# Altium footprint library TINYMODULE-V3.PcbLib: 27 footprints (part 2 of 2)
Each footprint in its own frame and in the unit in brackets; x right, y up, seen from the top. Pads: shape width x height; smd on the part's side, far side on the other; paste and mask are expansions set on the pad; w line width, h text height; cw(c..) or ccw(c..) is an arc to the next point about the centre after c.
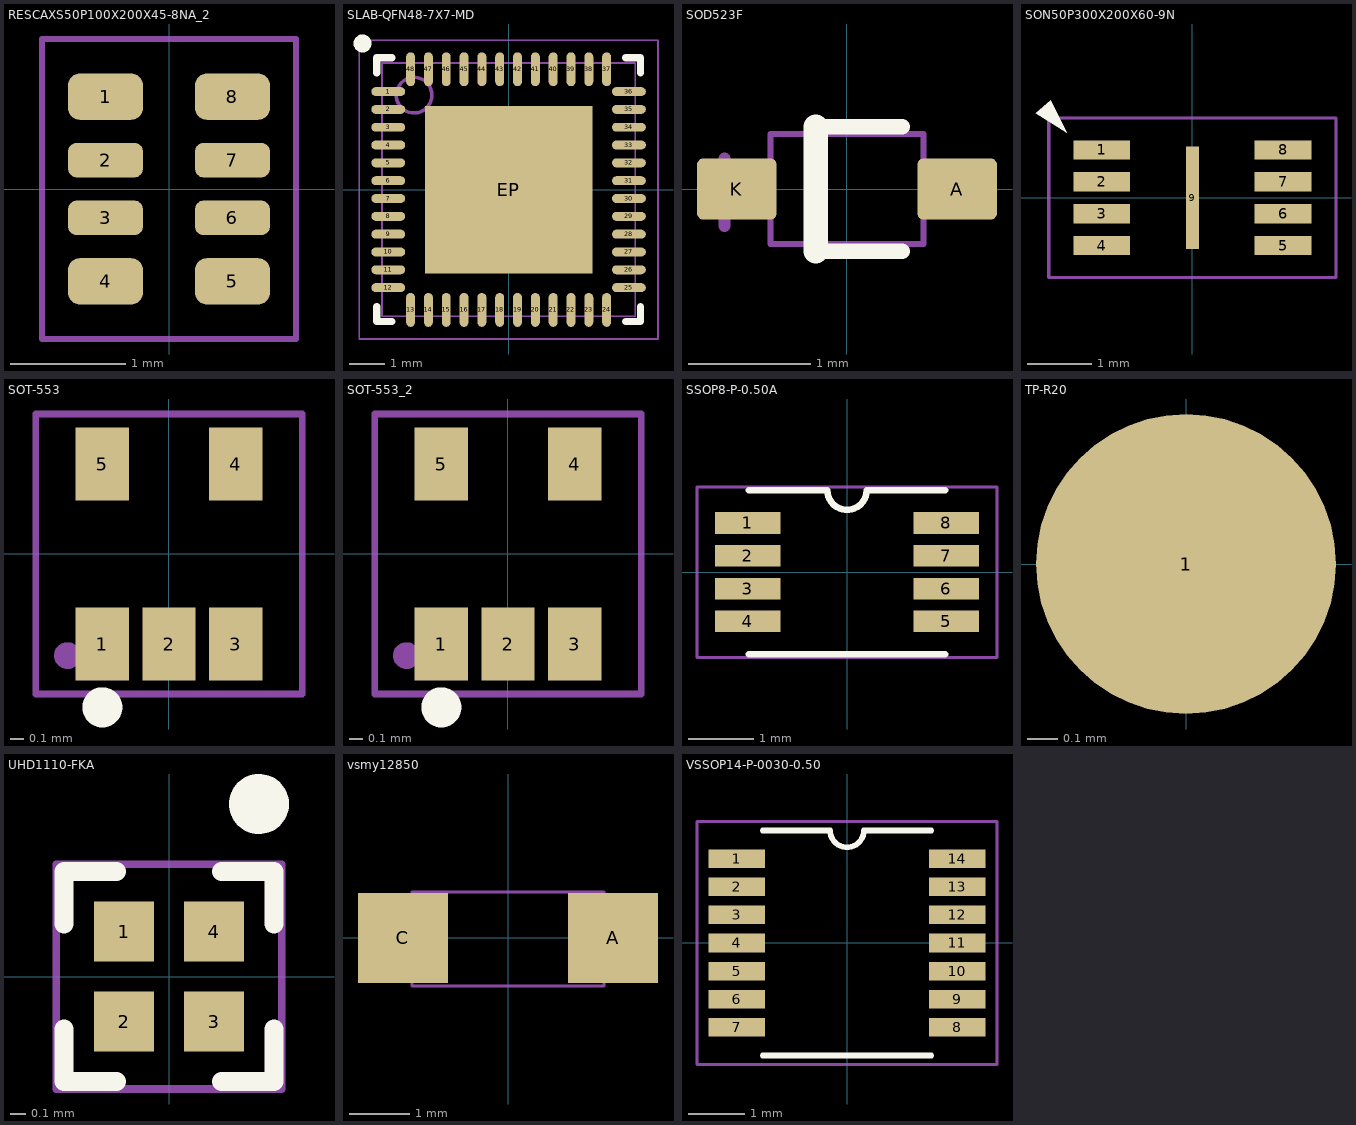
[diagram p1: the footprints below, top view; thin cyan lines are the x and y axes]

## RESCAXS50P100X200X45-8NA_2 [mm]
pads (8):
  rrect50% 0.65x0.4 smd: 1(-0.55,0.8) 4(-0.55,-0.8) 5(0.55,-0.8) 8(0.55,0.8)
  rrect50% 0.65x0.3 smd: 2(-0.55,0.25) 3(-0.55,-0.25) 6(0.55,-0.25) 7(0.55,0.25)
Mechanical 16:
  lines w0.05: -1.1,-1.3 1.1,-1.3 1.1,1.3 -1.1,1.3 -1.1,-1.3
  text ".Designator" at -0.32,0.66 h0.55
3D body "User Library-YC124-1.STEP": height 0.45, standoff 0, extent -0.5,-1 0.5,1

## SLAB-QFN48-7X7-MD [mm] "QFN, 48-Leads, Body 7.00x7.00mm, Pitch 0.50mm, Thermal Pad 4.70x4.70mm, IPC Medium Density"
height 0.9
pads (49):
  oval 0.95x0.25 smd mask+0.051: 1(-3.375,2.75) 2(-3.375,2.25) 3(-3.375,1.75) 4(-3.375,1.25) 5(-3.375,0.75) 6(-3.375,0.25) 7(-3.375,-0.25) 8(-3.375,-0.75) 9(-3.375,-1.25) 10(-3.375,-1.75) 11(-3.375,-2.25) 12(-3.375,-2.75) 25(3.375,-2.75) 26(3.375,-2.25) 27(3.375,-1.75) 28(3.375,-1.25) 29(3.375,-0.75) 30(3.375,-0.25) 31(3.375,0.25) 32(3.375,0.75) 33(3.375,1.25) 34(3.375,1.75) 35(3.375,2.25) 36(3.375,2.75)
  oval 0.25x0.95 smd mask+0.051: 13(-2.75,-3.375) 14(-2.25,-3.375) 15(-1.75,-3.375) 16(-1.25,-3.375) 17(-0.75,-3.375) 18(-0.25,-3.375) 19(0.25,-3.375) 20(0.75,-3.375) 21(1.25,-3.375) 22(1.75,-3.375) 23(2.25,-3.375) 24(2.75,-3.375) 37(2.75,3.375) 38(2.25,3.375) 39(1.75,3.375) 40(1.25,3.375) 41(0.75,3.375) 42(0.25,3.375) 43(-0.25,3.375) 44(-0.75,3.375) 45(-1.25,3.375) 46(-1.75,3.375) 47(-2.25,3.375) 48(-2.75,3.375)
  rect 4.7x4.7 smd mask+0.051: EP(0,0)
Top Overlay:
  circle w0.25: c-4.1,4.1 r0.125
  lines w0.2: -3.7,-3.275 -3.7,-3.7 -3.275,-3.7 ; -3.7,3.275 -3.7,3.7 -3.275,3.7 ; 3.275,-3.7 3.7,-3.7 3.7,-3.275 ; 3.275,3.7 3.7,3.7 3.7,3.275
Mechanical 16:
  circle w0.1: c-2.65,2.65 r0.5
  lines w0.05: -4.191,-4.191 4.191,-4.191 4.191,4.191 -4.191,4.191 -4.191,-4.191 ; -3.55,-3.55 -3.55,3.55 3.55,3.55 3.55,-3.55 -3.55,-3.55
  text ".Designator" at -0.35,0.45 h0.55
3D body: height 0.9, standoff 0.05, extent -3.55,-3.55 3.55,3.55

## SOD523F [mm] "SOD-523F; 2 Leads; Body 1.3 x 0.9 mm, (LxW)"
height 0.7
pads (2):
  rrect20% 0.65x0.5 smd: A(0.9,0) K(-0.9,0)
Top Overlay:
  lines w0.127: -0.254,-0.508 0.45,-0.508 ; -0.254,0.508 0.45,0.508
  lines w0.2: -0.254,-0.508 -0.254,0.508
Mechanical 16:
  lines w0.05: -0.625,-0.175 -0.625,0.175 ; -0.625,-0.175 -0.625,-0.45 0.625,-0.45 0.625,-0.175 ; -0.625,-0.175 -0.85,-0.175 -0.85,0.175 -0.625,0.175 ; -0.625,0.175 -0.625,0.45 0.625,0.45 0.625,0.175 ; 0.625,-0.175 0.625,0.175 ; 0.625,-0.175 0.85,-0.175 0.85,0.175 0.625,0.175
  lines w0.1: -1,-0.3 -1,0.25
  text ".Designator" at -0.5,-0.3 h0.55
3D body "SOD-523F.STEP": height 0.7, standoff 0, extent -0.85,-0.45 0.85,0.45

## SON50P300X200X60-9N [mm]
pads (9):
  rect 0.89x0.3 smd mask+0.051: 1(-1.42,0.75) 2(-1.42,0.25) 3(-1.42,-0.25) 4(-1.42,-0.75) 5(1.42,-0.75) 6(1.42,-0.25) 7(1.42,0.25) 8(1.42,0.75)
  rect 0.2x1.6 smd mask+0.051: 9(0,0)
Top Overlay:
  region: -1.968,1.016 -2.222,1.524 -2.451,1.321
Mechanical 16:
  lines w0.05: -2.25,-1.25 -2.25,1.25 2.25,1.25 2.25,-1.25 -2.25,-1.25
  text ".Designator" at -0.5,-0.35 h0.55
3D body: height 0.6, standoff 0, extent -1.563,-1.064 1.563,1.064

## SOT-553 [mm]
pads (5):
  rect 0.4x0.55 smd mask+0.025: 1(-0.5,-0.675) 2(0,-0.675) 3(0.5,-0.675) 4(0.5,0.675) 5(-0.5,0.675)
Top Overlay:
  circle w0.2: c-0.5,-1.15 r0.05
Mechanical 16:
  circle w0.1: c-0.762,-0.762 r0.05
  lines w0.05: -1,-1.05 -1,1.05 1,1.05 1,-1.05 -1,-1.05
  text ".Designator" at -1.016,-0.381 h0.8
3D body "sot-553.stp": height 0.45, standoff -0.05, extent -0.8,-0.8 0.8,0.8

## SOT-553_2 [mm]
pads (5):
  rect 0.4x0.55 smd: 1(-0.5,-0.675) 2(0,-0.675) 3(0.5,-0.675) 4(0.5,0.675) 5(-0.5,0.675)
Top Overlay:
  circle w0.2: c-0.5,-1.15 r0.05
Mechanical 16:
  circle w0.1: c-0.762,-0.762 r0.05
  lines w0.05: -1,-1.05 1,-1.05 1,1.05 -1,1.05 -1,-1.05
  text ".Designator" at -0.29,0.39 h0.55
3D body: height 0.5, standoff 0, extent -0.799,-0.599 0.799,0.599

## SSOP8-P-0.50A [mm]
height 2.2
pads (8):
  rect 1x0.33 smd: 1(-1.51,0.75) 2(-1.51,0.25) 3(-1.51,-0.25) 4(-1.51,-0.75) 5(1.51,-0.75) 6(1.51,-0.25) 7(1.51,0.25) 8(1.51,0.75)
Top Overlay:
  lines w0.1: -1.5,-1.25 1.5,-1.25 ; -1.5,1.25 -0.3,1.25 ccw(c0,1.25) 0.3,1.25 1.5,1.25
Mechanical 16:
  lines w0.05: -2.286,-1.3 2.286,-1.3 2.286,1.3 -2.286,1.3 -2.286,-1.3
  text ".Designator" at 0.46,0.26 h0.55
3D body "User Library-VSSOP8-3.STEP": height 0.9, standoff 0, extent -1.55,-1 1.55,1

## TP-R20 [mm]
pads (1):
  round 1 smd paste-0.762 mask+0.076: 1(0,0)
3D body: height -0.08, standoff -0.13, extent -0.277,-0.279 0.279,0.279

## UHD1110-FKA [mm]
pads (4):
  rect 0.4x0.4 smd: 1(-0.3,0.3) 2(-0.3,-0.3) 3(0.3,-0.3) 4(0.3,0.3)
Top Overlay:
  circle w0.2: c0.6,1.15 r0.1
  lines w0.127: -0.7,-0.35 -0.7,-0.7 -0.35,-0.7 ; -0.7,0.35 -0.7,0.7 -0.35,0.7 ; 0.35,-0.7 0.7,-0.7 0.7,-0.35 ; 0.35,0.7 0.7,0.7 0.7,0.35
Mechanical 16:
  lines w0.05: -0.75,-0.75 -0.75,0.75 0.75,0.75 0.75,-0.75 -0.75,-0.75
  text ".Designator" at -0.55,-0.35 h0.55
3D body "UHD1110-FKA-CL1A13R3Q1BBQFMF3--3DModel-STEP-56544.STEP": height 0.7, standoff 0, extent -0.5,-0.5 0.5,0.5

## vsmy12850 [mm]
pads (2):
  rect 1.5x1.5 smd: A(1.75,0) C(-1.75,0)
Mechanical 16:
  lines w0.05: -1.6,-0.8 1.6,-0.8 1.6,0.762 -1.6,0.762 -1.6,-0.8
  text ".Designator" at 0.5,0.25 h0.55
3D body: height 0.3, standoff 0, extent -1.65,-0.85 1.65,0.85

## VSSOP14-P-0030-0.50 [mm]
height 2.2
pads (14):
  rect 1x0.33 smd mask+0.051: 1(-1.96,1.5) 2(-1.96,1) 3(-1.96,0.5) 4(-1.96,0) 5(-1.96,-0.5) 6(-1.96,-1) 7(-1.96,-1.5) 8(1.96,-1.5) 9(1.96,-1) 10(1.96,-0.5) 11(1.96,0) 12(1.96,0.5) 13(1.96,1) 14(1.96,1.5)
Top Overlay:
  lines w0.1: -1.5,-2 1.5,-2 ; -1.5,2 -0.3,2 ccw(c0,2) 0.3,2 1.5,2
Mechanical 16:
  lines w0.05: -2.667,-2.159 -2.667,2.159 2.667,2.159 2.667,-2.159 -2.667,-2.159
  text ".Designator" at -0.29,0.38 h0.55
3D body "User Library-VSSOP8-3.STEP": height 0.9, standoff 0, extent -2,-0.25 1.1,1.75
3D body "User Library-VSSOP8-3.STEP": height 0.9, standoff 0, extent -2,-1.75 1.1,0.25
3D body "User Library-VSSOP8-3.STEP": height 0.9, standoff 0, extent -1.1,-1.75 2,0.25
3D body "User Library-VSSOP8-3.STEP": height 0.9, standoff 0, extent -1.1,-0.25 2,1.75